# Altium schematic symbol library BSB014N04LX3 G.SchLib: 1 symbol
Pins are listed as number, name and electrical type; pins without a type are passive.

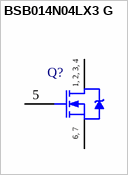
[diagram p0: symbol BSB014N04LX3 G]

## BSB014N04LX3 G
designator Q?
N-Channel OptiMOS Power-MOSFET, 40 V VDS, 180 A ID, -40 to 150 degC, MG-WDSON-2-8, Reel, Green; Manufacturer: Infineon; PartNumber: BSB014N04LX3 G; Green: TRUE; ID (max): 180 A; IDpuls (max): 400 A; Polarity: N; Ptot (max): 89 W; QG: 148 nC; RDS (on) (max): 1.4 mOhm; RDS (on) (max) (@4.5V): 2 mOhm; Rth: 1.4 K/W; RthJA (max): 45 K/W; VDS (max): 40 V; VGS(th) (max): 2 V; VGS(th) (min): 1.2 V; DatasheetVersion: Rev. 2.3; PackageVersion: Jun-09; PackageReference: MG-WDSON-2-8; PackageDescription: 7-Pin Metal Green Very Very Thin Profile Dual Small Outline Non-leaded Package; Supplier 1: Digi-Key; Supplier Part Number 1: BSB014N04LX3 G-ND; Supplier 2: Mouser; Supplier Part Number 2: 726-BS726-B014N04LX3; Halogen-free: TRUE; Packing: Reel; RthJC (max): 1.4 K/W; Mounting Technology: Surface Mount; ComponentLink1Description: Manufacturer URL; ComponentLink1URL: http://www.infineon.com/; ComponentLink2Description: Datasheet; ComponentLink2URL: http://www.infineon.com/dgdl/BSB014N04LX3+G_Rev+2.3.pdf?folderId=db3a304313b8b5a60113cee8763b02d7&fileId=db3a304320d39d590121a02c6c737a9b; ComponentLink3Description: Package Specification; ComponentLink3URL: http://www.infineon.com/dgdl/MG-WDSON-2-MX-Package_Overview.pdf?folderId=db3a30431f848401011fb8316d98599f&fileId=db3a30431f848401011fb8a9e1645a0a
footprint INF-MG-WDSON-2-8_V (WDSON, 7-Leads, Body 5.5x4.93mm)
pins: 1 DRAIN, 2 DRAIN, 3 DRAIN, 4 DRAIN, 5 GATE, 6 SOURCE, 7 SOURCE
text: 1, 2, 3, 4; 6, 7